# EAGLE library part BQ25101_DSBGA_6_BQ25101_DSBGA_6 (library Seeed_XIAO_BLE)
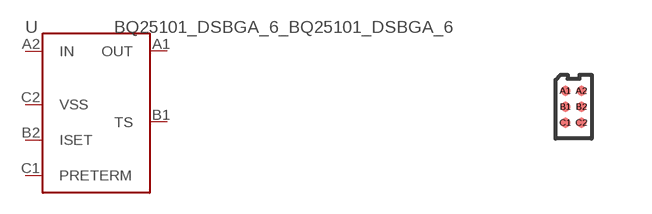
[diagram p0: symbol with the pads of BQ25101_DSBGA_6_BQ25101; footprint BQ25101_DSBGA_6_BQ25101]

Designator prefix U

## BQ25101_DSBGA_6_BQ25101_DSBGA_6  [BQ25101_DSBGA_6_BQ25101]
A1  OUT
A2  IN
B1  TS
B2  ISET
C1  PRETERM
C2  VSS

## Footprint BQ25101_DSBGA_6_BQ25101 (pad centres in mm)
smd 0.254 x 0.254: A1 -0.2,0.4; A2 0.2,0.4; B1 -0.2,0; B2 0.2,0; C1 -0.2,-0.4; C2 0.2,-0.4